# Altium footprint library VARISTOR.PcbLib: 1 footprints
Each footprint in its own frame and in the unit in brackets; x right, y up, seen from the top. Pads: shape width x height; smd on the part's side, far side on the other; paste and mask are expansions set on the pad; w line width, h text height; cw(c..) or ccw(c..) is an arc to the next point about the centre after c.
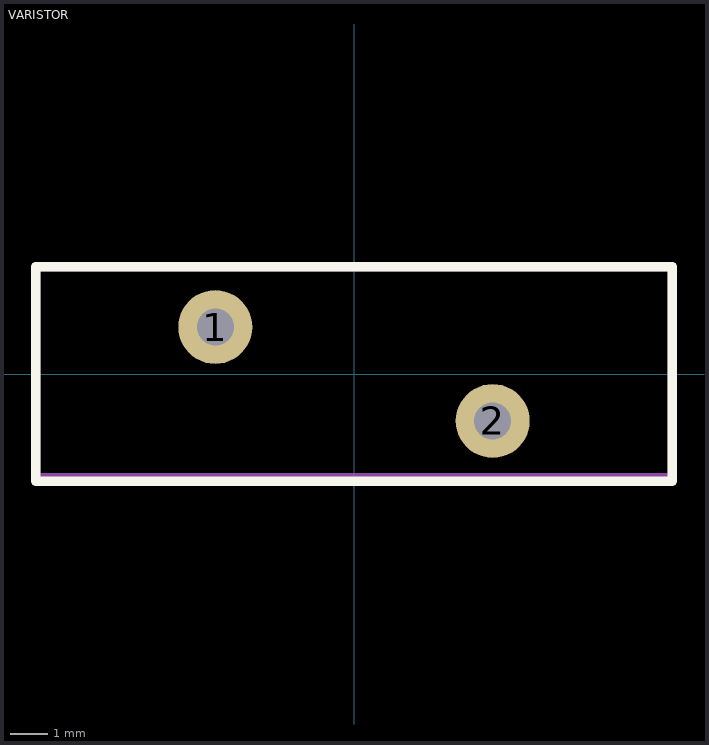
[diagram p0: the footprint, top view; thin cyan lines are the x and y axes]

## VARISTOR [mm]
pads (2):
  round 2 hole 1: 1(-3.75,1.27) 2(3.75,-1.27)
Top Overlay:
  lines w0.254: -8.6,-2.9 8.6,-2.9 8.6,2.9 -8.6,2.9 -8.6,-2.9
Top Assembly:
  lines w0.254: -8.6,-2.8 -8.6,2.9 8.6,2.9 8.6,-2.8 -8.6,-2.8
  text "'.Designator'" at 0,0 h0.7
3D body "User Library-Varistor 14mm.STEP": height 22.49, standoff -0.5, extent -8.5,-2.8 8.499,2.8